# Altium footprint library Protel 99SE BANKS PCB.PCBLIB: 278 footprints (part 4 of 18)
Each footprint in its own frame and in the unit in brackets; x right, y up, seen from the top. Pads: shape width x height; smd on the part's side, far side on the other; paste and mask are expansions set on the pad; w line width, h text height; cw(c..) or ccw(c..) is an arc to the next point about the centre after c.
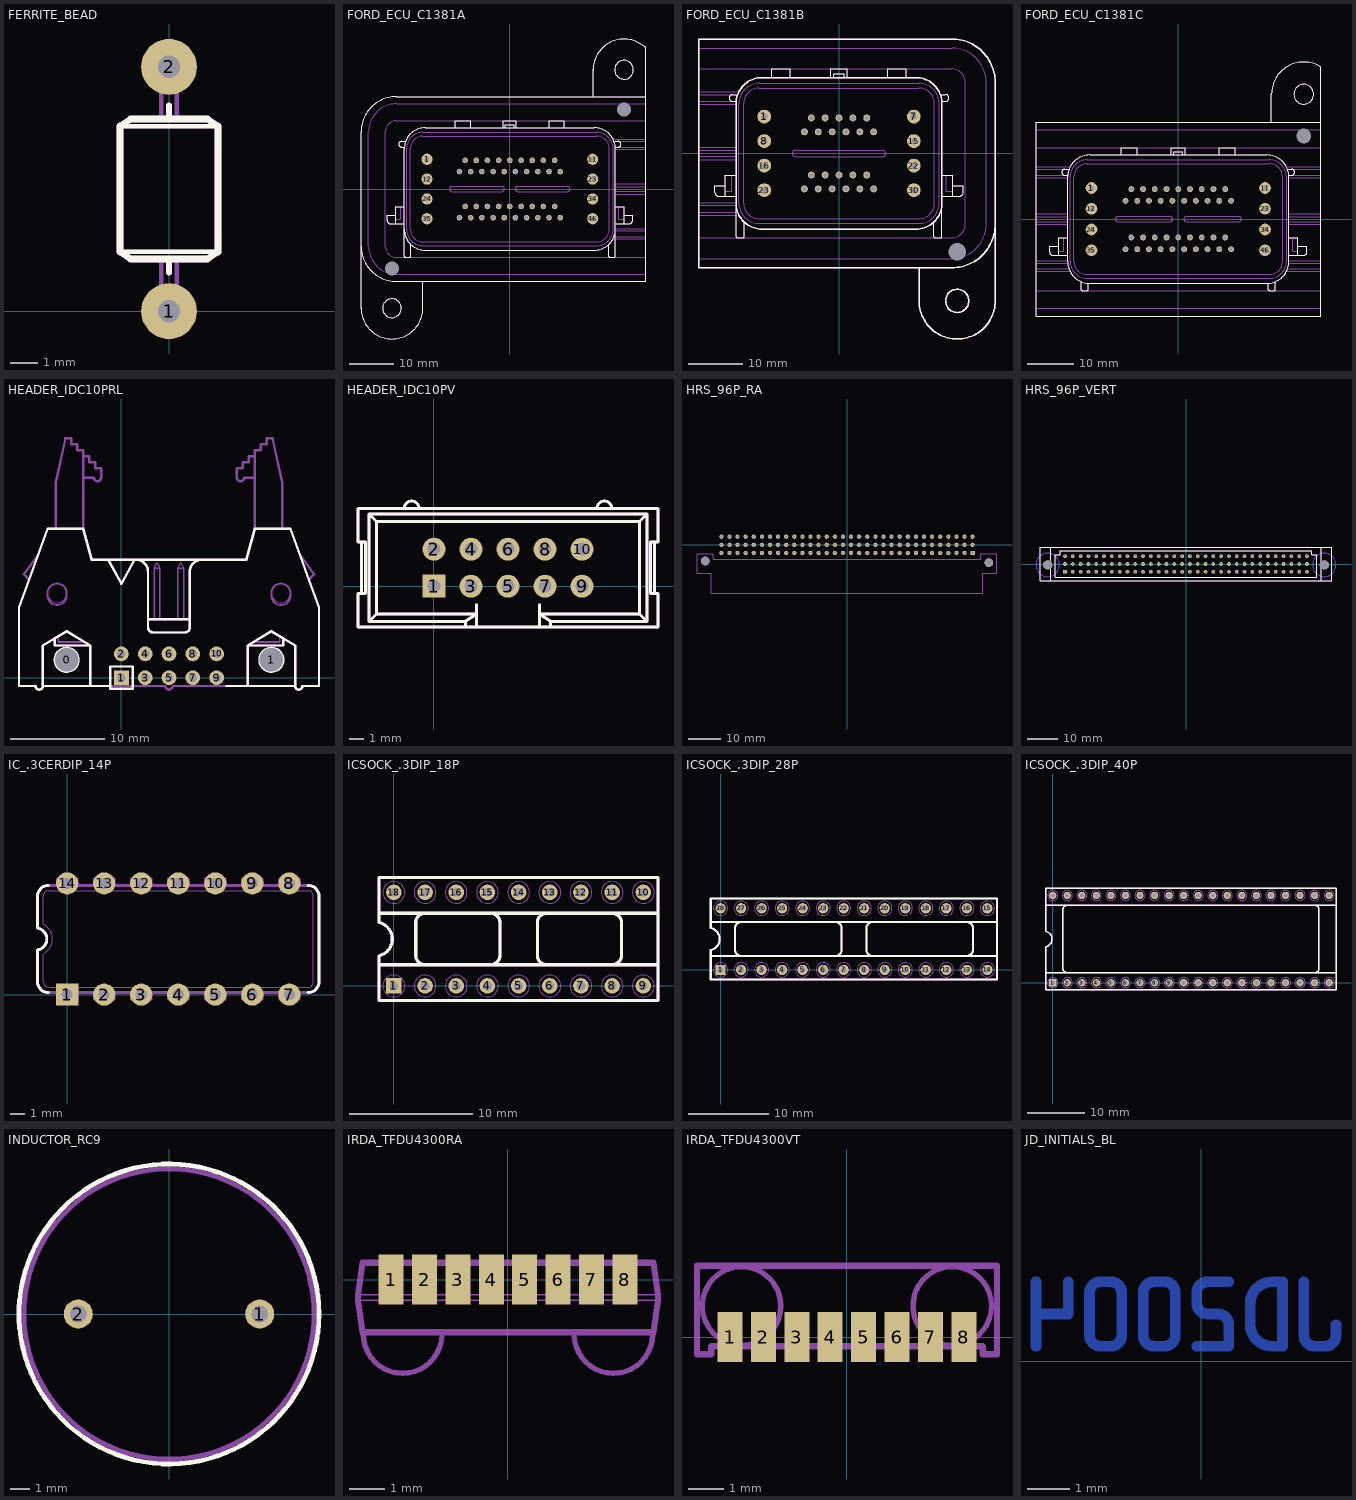
[diagram p3: the footprints below, top view; thin cyan lines are the x and y axes]

## FERRITE_BEAD [mil]
pads (2):
  round 80 hole 32: 1(0,0) 2(0,350)
TopOverlay:
  lines w6: -70,85 70,85 ; -70,265 70,265
  lines w8: 0,55 0,75 ; 0,275 0,295
  lines w10: -70,85 -55,75 55,75 70,85 70,265 55,275 -55,275 -70,265 -70,85
Mechanical3:
  lines w6: -70,85 70,85 ; -70,265 70,265 ; -11,75 -11,0 ccw(c0,0) 11,0 11,75 ; -11,275 -11,350 cw(c0,350) 11,350 11,275
  lines w10: -70,85 -55,75 55,75 70,85 70,265 55,275 -55,275 -70,265 -70,85

## FORD_ECU_C1381A [mil]
pads (48):
  round 100 hole 45: 1(-740,265.5) 11(740,265.5) 12(-740,88.5) 23(740,88.5) 24(-740,-88.5) 34(740,-88.5) 35(-740,-265.5) 46(740,-265.5)
  round 50 hole 35: 2(-400,256) 3(-300,256) 4(-200,256) 5(-100,256) 6(0,256) 7(100,256) 8(200,256) 9(300,256) 10(400,256) 13(-450,156) 14(-350,156) 15(-250,156) 16(-150,156) 17(-50,156) 18(50,156) 19(150,156) 20(250,156) 21(350,156) 22(450,156) 25(-400,-156) 26(-300,-156) 27(-200,-156) 28(-100,-156) 29(0,-156) 30(100,-156) 31(200,-156) 32(300,-156) 33(400,-156) 36(-450,-256) 37(-350,-256) 38(-250,-256) 39(-150,-256) 40(-50,-256) 41(50,-256) 42(150,-256) 43(250,-256) 44(350,-256) 45(450,-256)
  round 30 hole 125 unplated: ""(-1053,-709) ""(1020,709)
TopOverlay:
  circle w10: c1020,1065 r84
  circle w10: c-1053,-1065 r84
  lines w8: -1020,-310 -1020,-158 -943,-158 ; -1020,-233 -1097,-233 -1097,-280 ccw(c-1067,-280) -1067,-310 -943,-310 ; -943,-353.5 -943,-600 ccw(c-933,-600) -933,-610 -895,-610 ccw(c-895,-600) -885,-600 -885,-495.5 ; -943,375 -968,375 cw(c-968,400) -968,425 -932,425 ; -487,547 -487,610 -351,610 -351,547 ; -59,547 -59,610 59,610 59,547 ; -39,547 -39,576 39,576 39,547 ; 351,547 351,610 487,610 487,547 ; 885,-495.5 885,-600 ccw(c895,-600) 895,-610 933,-610 ccw(c933,-600) 943,-600 943,-353.5 ; 932,425 968,425 cw(c968,400) 968,375 943,375 ; 943,-310 1067,-310 ccw(c1067,-280) 1097,-280 1097,-233 1020,-233 ; 943,-158 1020,-158 1020,-310
  lines w10: -1328.05,-1065 ccw(c-1053,-1065) -777.95,-1065 ; -1328,-1070 -1328,-511 ; -778,-1070 -778,-826 ; 744.95,1065 cw(c1020,1065) 1212.78,1261.18 ; 745,826 745,1070 ; 1213,1261 1213,826 ; -1328,-511 ccw(c-1013,-511) -1013,-826 1213,-826 1213,826 ; -1328,-511 -1328,511 cw(c-1013,511) -1013,826 1213,826 ; -943,-360 ccw(c-756,-360) -756,-547 756,-547 ccw(c756,-360) 943,-360 943,360 ccw(c756,360) 756,547 -756,547 ccw(c-756,360) -943,360 -943,-360
Mechanical3:
  drawing of 664 lines, arcs and shapes, not listed

## FORD_ECU_C1381B [mil]
pads (31):
  round 100 hole 45: 1(-540,265.5) 7(540,265.5) 8(-540,88.5) 15(540,88.5) 16(-540,-88.5) 22(540,-88.5) 23(-540,-265.5) 30(540,-265.5)
  round 50 hole 35: 2(-200,256) 3(-100,256) 4(0,256) 5(100,256) 6(200,256) 9(-250,156) 10(-150,156) 11(-50,156) 12(50,156) 13(150,156) 14(250,156) 17(-200,-156) 18(-100,-156) 19(0,-156) 20(100,-156) 21(200,-156) 24(-250,-256) 25(-150,-256) 26(-50,-256) 27(50,-256) 28(150,-256) 29(250,-256)
  round 30 hole 125 unplated: ""(853,-709)
TopOverlay:
  circle w10: c853,-1065 r84
  lines w8: -820,-310 -820,-158 -743,-158 ; -820,-233 -897,-233 -897,-280 ccw(c-867,-280) -867,-310 -743,-310 ; -743,-353.5 -743,-600 ccw(c-733,-600) -733,-610 -695,-610 ccw(c-695,-600) -685,-600 -685,-495.5 ; -743,375 -768,375 cw(c-768,400) -768,425 -732,425 ; -487,547 -487,610 -351,610 -351,547 ; -59,547 -59,610 59,610 59,547 ; -39,547 -39,576 39,576 39,547 ; 351,547 351,610 487,610 487,547 ; 685,-495.5 685,-600 ccw(c695,-600) 695,-610 733,-610 ccw(c733,-600) 743,-600 743,-353.5 ; 732,425 768,425 cw(c768,400) 768,375 743,375 ; 743,-310 867,-310 ccw(c867,-280) 897,-280 897,-233 820,-233 ; 743,-158 820,-158 820,-310
  lines w10: 577.95,-1065 ccw(c853,-1065) 1128.05,-1065 ; 578,-1070 578,-826 ; 1128,-1070 1128,-511 ; 1128,-511 cw(c813,-511) 813,-826 -1013,-826 -1013,826 813,826 cw(c813,511) 1128,511 1128,-511 ; -743,-360 ccw(c-556,-360) -556,-547 556,-547 ccw(c556,-360) 743,-360 743,360 ccw(c556,360) 556,547 -556,547 ccw(c-556,360) -743,360 -743,-360
Mechanical3:
  drawing of 464 lines, arcs and shapes, not listed

## FORD_ECU_C1381C [mil]
pads (47):
  round 100 hole 45: 1(-740,265.5) 11(740,265.5) 12(-740,88.5) 23(740,88.5) 24(-740,-88.5) 34(740,-88.5) 35(-740,-265.5) 46(740,-265.5)
  round 50 hole 35: 2(-400,256) 3(-300,256) 4(-200,256) 5(-100,256) 6(0,256) 7(100,256) 8(200,256) 9(300,256) 10(400,256) 13(-450,156) 14(-350,156) 15(-250,156) 16(-150,156) 17(-50,156) 18(50,156) 19(150,156) 20(250,156) 21(350,156) 22(450,156) 25(-400,-156) 26(-300,-156) 27(-200,-156) 28(-100,-156) 29(0,-156) 30(100,-156) 31(200,-156) 32(300,-156) 33(400,-156) 36(-450,-256) 37(-350,-256) 38(-250,-256) 39(-150,-256) 40(-50,-256) 41(50,-256) 42(150,-256) 43(250,-256) 44(350,-256) 45(450,-256)
  round 30 hole 125 unplated: ""(1070,709)
TopOverlay:
  circle w10: c1070,1065 r84
  lines w8: -1020,-310 -1020,-158 -943,-158 ; -1020,-233 -1097,-233 -1097,-280 ccw(c-1067,-280) -1067,-310 -943,-310 ; -943,375 -968,375 cw(c-968,400) -968,425 -932,425 ; -827,-534 -827,-600 ccw(c-817,-600) -817,-610 -779,-610 ccw(c-779,-600) -769,-600 -769,-548 ; -487,547 -487,610 -351,610 -351,547 ; -59,547 -59,610 59,610 59,547 ; -39,547 -39,576 39,576 39,547 ; 351,547 351,610 487,610 487,547 ; 769,-548 769,-600 ccw(c779,-600) 779,-610 817,-610 ccw(c817,-600) 827,-600 827,-534 ; 932,425 968,425 cw(c968,400) 968,375 943,375 ; 943,-310 1067,-310 ccw(c1067,-280) 1097,-280 1097,-233 1020,-233 ; 943,-158 1020,-158 1020,-310
  lines w10: 794.95,1065 cw(c1070,1065) 1212.48,1300.26 ; 795,826 795,1070 ; 1213,1300 1213,826 ; 1213,826 1213,-826 -1213,-826 -1213,826 1213,826 ; -943,-360 ccw(c-756,-360) -756,-547 756,-547 ccw(c756,-360) 943,-360 943,360 ccw(c756,360) 756,547 -756,547 ccw(c-756,360) -943,360 -943,-360
Mechanical3:
  drawing of 664 lines, arcs and shapes, not listed

## HEADER_IDC10PRL [mil]
pads (12):
  round 60 hole 98 unplated: 0(-230,75) 1(630,75)
  rect 62x62 hole 35: 1(0,0)
  round 62 hole 35: 2(0,100) 3(100,0) 4(100,100) 5(200,0) 6(200,100) 7(300,0) 8(300,100) 9(400,0) 10(400,100)
TopOverlay:
  circle w10: c630,75 r50
  circle w10: c-230,75 r50
  lines w10: -280,165 -280,135 -130,135 ; -130,-35 -130,135 ; -55,495 0,395 55,495 ; -47,-35 -330,-35 ; 62,495 cw(c62,445) 112,445 112,210 ccw(c132,210) 132,190 267,190 ccw(c267,210) 287,210 287,445 cw(c337,445) 337,495 ; 112,245 287,245 ; 440,-35 730,-35 ; 530,-35 530,135 ; 680,164 680,135 530,135 ; -330,-35 cw(c-345,-35) -360,-35 -430,-35 -430,295 -310,625 -160,625 -125,495 525,495 560,625 710,625 830,295 830,-35 760,-35 cw(c745,-35) 730,-35 ; -330,-35 -330,135 -230,195 -130,135 ; 530,135 630,195 730,135 730,-35 ; -47,-47 47,-47 47,47 -47,47 -47,-47
KeepOutLayer:
  circle w10: c-230,75 r46.1
  circle w10: c630,75 r46.1
Mechanical3:
  circle w8: c-230,75 r50
  circle w4: c670,355 r40
  circle w8: c630,75 r50
  circle w4: c-270,355 r40
  lines w6: -55,495 0,395 55,495 ; 137,245 137,460 ; 162,245 162,460 ; 237,245 237,460 ; 262,245 262,460 ; 137,460 162,460 ; 137,460 147,480 152,480 162,460 ; 237,460 262,460 ; 237,460 247,480 252,480 262,460
  lines w8: -265,174 -265,150 -156,150 ; 112,245 287,245 ; 555,150 665,150 665,173 ; -310,345 ccw(c-270,345) -230,345 -230,355 ccw(c-270,355) -310,355 -310,345 ; 630,345 ccw(c670,345) 710,345 710,355 ccw(c670,355) 630,355 630,345
  lines w10: -390,415 -410,435 -349,519 ; -280,165 -280,135 -130,135 ; -275,625 -275,820 -235,1005 -210,1005 -210,980 -185,980 -185,955 -160,955 -160,625 ; -160,840 -115,840 ccw(c-100,840) -85,840 -85,880 -110,880 -110,905 -135,905 -135,930 -160,930 ; -130,-35 -130,135 ; 62,495 cw(c62,445) 112,445 112,210 ccw(c132,210) 132,190 267,190 ccw(c267,210) 287,210 287,445 cw(c337,445) 337,495 ; 530,-35 530,135 ; 560,840 515,840 cw(c500,840) 485,840 485,880 510,880 510,905 535,905 535,930 560,930 ; 675,625 675,820 635,1005 610,1005 610,980 585,980 585,955 560,955 560,625 ; 680,164 680,135 530,135 ; 748,520 810,435 790,415 ; -330,-35 cw(c-345,-35) -360,-35 -430,-35 -430,295 -310,625 -160,625 ; -330,-35 185,-35 ccw(c200,-35) 215,-35 730,-35 ; -330,-35 -330,135 -230,195 -130,135 ; -160,625 -125,495 525,495 560,625 ; 530,135 630,195 730,135 730,-35 ; 560,625 710,625 830,295 830,-35 760,-35 cw(c745,-35) 730,-35

## HEADER_IDC10PV [mil]
pads (10):
  rect 62x62 hole 35: 1(0,0)
  round 62 hole 35: 2(0,100) 3(100,0) 4(100,100) 5(200,0) 6(200,100) 7(300,0) 8(300,100) 9(400,0) 10(400,100)
TopOverlay:
  lines w8: -195,-20 -195,120 ; -80,210 cw(c-60,210) -40,210 ; 85,-110 85,-95 ; 115,-110 115,-50 ; 285,-110 285,-50 ; 315,-110 315,-95 ; 440,210 cw(c460,210) 480,210 ; 595,-20 595,120 ; -175,-95 85,-95 ; -175,-95 -175,195 ; -175,-95 -155,-75 ; -175,195 575,195 ; -175,195 -155,175 ; -155,-75 115,-75 85,-95 ; -155,-75 -155,175 ; -155,175 555,175 ; 315,-95 575,-95 ; 315,-95 285,-75 555,-75 ; 555,-75 555,175 ; 555,-75 575,-95 ; 555,175 575,195 ; 575,-95 575,195 ; -205,-110 605,-110 605,-20 585,-20 585,120 605,120 605,210 -205,210 -205,120 -185,120 -185,-20 -205,-20 -205,-110
Mechanical3:
  drawing of 156 lines, arcs and shapes, not listed

## HRS_96P_RA [mil]
pads (98):
  rect 52x52 hole 31: A1(1550,-100)
  round 52 hole 31: A2(1450,-100) A3(1350,-100) A4(1250,-100) A5(1150,-100) A6(1050,-100) A7(950,-100) A8(850,-100) A9(750,-100) A10(650,-100) A11(550,-100) A12(450,-100) A13(350,-100) A14(250,-100) A15(150,-100) A16(50,-100) A17(-50,-100) A18(-150,-100) A19(-250,-100) A20(-350,-100) A21(-450,-100) A22(-550,-100) A23(-650,-100) A24(-750,-100) A25(-850,-100) A26(-950,-100) A27(-1050,-100) A28(-1150,-100) A29(-1250,-100) A30(-1350,-100) A31(-1450,-100) A32(-1550,-100) B1(1550,0) B2(1450,0) B3(1350,0) B4(1250,0) B5(1150,0) B6(1050,0) B7(950,0) B8(850,0) B9(750,0) B10(650,0) B11(550,0) B12(450,0) B13(350,0) B14(250,0) B15(150,0) B16(50,0) B17(-50,0) B18(-150,0) B19(-250,0) B20(-350,0) B21(-450,0) B22(-550,0) B23(-650,0) B24(-750,0) B25(-850,0) B26(-950,0) B27(-1050,0) B28(-1150,0) B29(-1250,0) B30(-1350,0) B31(-1450,0) B32(-1550,0) C1(1550,100) C2(1450,100) C3(1350,100) C4(1250,100) C5(1150,100) C6(1050,100) C7(950,100) C8(850,100) C9(750,100) C10(650,100) C11(550,100) C12(450,100) C13(350,100) C14(250,100) C15(150,100) C16(50,100) C17(-50,100) C18(-150,100) C19(-250,100) C20(-350,100) C21(-450,100) C22(-550,100) C23(-650,100) C24(-750,100) C25(-850,100) C26(-950,100) C27(-1050,100) C28(-1150,100) C29(-1250,100) C30(-1350,100) C31(-1450,100) C32(-1550,100)
  round 107 hole 107 unplated: ""(-1750,-200) ""(1750,-219.69)
Mechanical3:
  lines w10: -1850.39,-351.78 -1673.23,-351.78 -1673.23,-599.81 0,-599.81 1673.23,-599.81 1673.23,-351.78 1850.39,-351.78 1850.39,-107.69 1649.61,-107.69 1649.61,-178.55 0,-178.55 -1649.61,-178.55 -1649.61,-107.69 -1850.39,-107.69 -1850.39,-351.78

## HRS_96P_VERT [mil]
pads (98):
  rect 48.3x48.3 hole 29: A1(-1550,-100)
  round 48.3 hole 29: A2(-1450,-100) A3(-1350,-100) A4(-1250,-100) A5(-1150,-100) A6(-1050,-100) A7(-950,-100) A8(-850,-100) A9(-750,-100) A10(-650,-100) A11(-550,-100) A12(-450,-100) A13(-350,-100) A14(-250,-100) A15(-150,-100) A16(-50,-100) A17(50,-100) A18(150,-100) A19(250,-100) A20(350,-100) A21(450,-100) A22(550,-100) A23(650,-100) A24(750,-100) A25(850,-100) A26(950,-100) A27(1050,-100) A28(1150,-100) A29(1250,-100) A30(1350,-100) A31(1450,-100) A32(1550,-100) B1(-1550,0) B2(-1450,0) B3(-1350,0) B4(-1250,0) B5(-1150,0) B6(-1050,0) B7(-950,0) B8(-850,0) B9(-750,0) B10(-650,0) B11(-550,0) B12(-450,0) B13(-350,0) B14(-250,0) B15(-150,0) B16(-50,0) B17(50,0) B18(150,0) B19(250,0) B20(350,0) B21(450,0) B22(550,0) B23(650,0) B24(750,0) B25(850,0) B26(950,0) B27(1050,0) B28(1150,0) B29(1250,0) B30(1350,0) B31(1450,0) B32(1550,0) C1(-1550,100) C2(-1450,100) C3(-1350,100) C4(-1250,100) C5(-1150,100) C6(-1050,100) C7(-950,100) C8(-850,100) C9(-750,100) C10(-650,100) C11(-550,100) C12(-450,100) C13(-350,100) C14(-250,100) C15(-150,100) C16(-50,100) C17(50,100) C18(150,100) C19(250,100) C20(350,100) C21(450,100) C22(550,100) C23(650,100) C24(750,100) C25(850,100) C26(950,100) C27(1050,100) C28(1150,100) C29(1250,100) C30(1350,100) C31(1450,100) C32(1550,100)
  round 117 hole 117 unplated: ""(-1771.65,-11.81) ""(1771.65,-11.81)
BottomLayer keep-out:
  circle w10: c1771.65,-11.81 r150
  circle w10: c-1771.65,-11.81 r150
TopOverlay:
  lines w10: -1732.28,-216.54 -1732.28,216.54 ; 1732.28,-216.54 1732.28,216.54 ; -1870.08,-216.54 1870.08,-216.54 1870.08,216.54 -1870.08,216.54 -1870.08,-216.54 ; -1678.15,-171.26 -1678.15,117.13 -1614.17,117.13 -1614.17,171.26 1614.17,171.26 1614.17,117.13 1678.15,117.13 1678.15,-171.26 -1678.15,-171.26
Mechanical3:
  lines w10: -1732.28,-216.54 -1732.28,216.54 ; 1732.28,-216.54 1732.28,216.54 ; -1870.08,-216.54 1870.08,-216.54 1870.08,216.54 0,216.54 -1870.08,216.54 -1870.08,-216.54 ; -1678.15,-171.26 0,-171.26 1678.15,-171.26 1678.15,117.13 1614.17,117.13 1614.17,171.26 0,171.26 -1614.17,171.26 -1614.17,117.13 -1678.15,117.13 -1678.15,-171.26

## IC_.3CERDIP_14P [mil]
pads (14):
  rect 60x60 hole 30: 1(0,0)
  round 60 hole 30: 2(100,0) 3(200,0) 4(300,0) 5(400,0) 6(500,0) 7(600,0) 8(600,300) 9(500,300) 10(400,300) 11(300,300) 12(200,300) 13(100,300) 14(0,300)
TopOverlay:
  lines w8: -80,120 -80,35 ccw(c-50,35) -50,5 ; -80,180 -80,265 cw(c-50,265) -50,295 ; -79.79,120.46 ccw(c-85,150) -79.79,179.54 ; 650,5 ccw(c650,35) 680,35 680,265 ccw(c650,265) 650,295
Mechanical3:
  lines w2: -65,109.5 -65,35 ccw(c-50,35) -50,20 650,20 ccw(c650,35) 665,35 665,265 ccw(c650,265) 650,280 -50,280 ccw(c-50,265) -65,265 -65,190.5 ; -64.92,109.73 ccw(c-85,150) -64.92,190.27
  lines w4: -28,5 -28,-14 28,-14 28,5 ; -28,295 -28,314 28,314 28,295 ; 72,5 72,-14 128,-14 128,5 ; 72,295 72,314 128,314 128,295 ; 172,5 172,-14 228,-14 228,5 ; 172,295 172,314 228,314 228,295 ; 272,5 272,-14 328,-14 328,5 ; 272,295 272,314 328,314 328,295 ; 372,5 372,-14 428,-14 428,5 ; 372,295 372,314 428,314 428,295 ; 472,5 472,-14 528,-14 528,5 ; 472,295 472,314 528,314 528,295 ; 572,5 572,-14 628,-14 628,5 ; 572,295 572,314 628,314 628,295
  lines w8: -80,120 -80,35 ccw(c-50,35) -50,5 650,5 ccw(c650,35) 680,35 680,265 ccw(c650,265) 650,295 -50,295 ccw(c-50,265) -80,265 -80,180 ; -79.79,120.46 ccw(c-85,150) -79.79,179.54

## ICSOCK_.3DIP_18P [mil]
pads (18):
  rect 50x50 hole 28: 1(0,0)
  round 50 hole 28: 2(100,0) 3(200,0) 4(300,0) 5(400,0) 6(500,0) 7(600,0) 8(700,0) 9(800,0) 10(800,300) 11(700,300) 12(600,300) 13(500,300) 14(400,300) 15(300,300) 16(200,300) 17(100,300) 18(0,300)
TopOverlay:
  lines w10: -48,68 847,68 ; -48,96 -48,-47 847,-47 847,348 -48,348 -48,204 ; -48,233 847,233 ; -47.63,96.41 ccw(c-60,150) -47.63,203.59 ; 100,68 cw(c100,98) 70,98 70,203 cw(c100,203) 100,233 ; 310,68 ccw(c310,98) 340,98 340,203 ccw(c310,203) 310,233 ; 490,68 cw(c490,98) 460,98 460,203 cw(c490,203) 490,233 ; 700,68 ccw(c700,98) 730,98 730,203 ccw(c700,203) 700,233
Mechanical3:
  circle w4: c300,300 r35
  circle w2: c200,300 r15
  circle w2: c300,300 r15
  circle w2: c300,300 r20
  circle w2: c200,300 r20
  circle w4: c200,300 r35
  circle w4: c0,300 r35
  circle w2: c0,300 r20
  circle w2: c100,300 r20
  circle w2: c100,300 r15
  circle w2: c0,300 r15
  circle w4: c100,300 r35
  circle w4: c400,300 r35
  circle w2: c500,300 r15
  circle w2: c400,300 r15
  circle w2: c400,300 r20
  circle w2: c500,300 r20
  circle w4: c500,300 r35
  circle w4: c700,300 r35
  circle w2: c700,300 r20
  circle w2: c600,300 r20
  circle w2: c600,300 r15
  circle w2: c700,300 r15
  circle w4: c600,300 r35
  circle w4: c800,300 r35
  circle w2: c800,0 r15
  circle w2: c800,300 r15
  circle w2: c800,300 r20
  circle w2: c800,0 r20
  circle w4: c800,0 r35
  circle w4: c600,0 r35
  circle w2: c600,0 r20
  circle w2: c700,0 r20
  circle w2: c700,0 r15
  circle w2: c600,0 r15
  circle w4: c700,0 r35
  circle w4: c500,0 r35
  circle w2: c400,0 r15
  circle w2: c500,0 r15
  circle w2: c500,0 r20
  circle w2: c400,0 r20
  circle w4: c400,0 r35
  circle w4: c200,0 r35
  circle w2: c200,0 r20
  circle w2: c300,0 r20
  circle w2: c300,0 r15
  circle w2: c200,0 r15
  circle w4: c300,0 r35
  circle w4: c0,0 r35
  circle w2: c0,0 r20
  circle w2: c100,0 r20
  circle w2: c100,0 r15
  circle w2: c0,0 r15
  circle w4: c100,0 r35
  lines w10: -48,68 847,68 ; -48,96 -48,-47 847,-47 847,348 -48,348 -48,204 ; -48,233 847,233 ; -47.63,96.41 ccw(c-60,150) -47.63,203.59 ; 100,68 cw(c100,98) 70,98 70,203 cw(c100,203) 100,233 ; 310,68 ccw(c310,98) 340,98 340,203 ccw(c310,203) 310,233 ; 490,68 cw(c490,98) 460,98 460,203 cw(c490,203) 490,233 ; 700,68 ccw(c700,98) 730,98 730,203 ccw(c700,203) 700,233

## ICSOCK_.3DIP_28P [mil]
pads (28):
  rect 50x50 hole 28: 1(0,0)
  round 50 hole 28: 2(100,0) 3(200,0) 4(300,0) 5(400,0) 6(500,0) 7(600,0) 8(700,0) 9(800,0) 10(900,0) 11(1000,0) 12(1100,0) 13(1200,0) 14(1300,0) 15(1300,300) 16(1200,300) 17(1100,300) 18(1000,300) 19(900,300) 20(800,300) 21(700,300) 22(600,300) 23(500,300) 24(400,300) 25(300,300) 26(200,300) 27(100,300) 28(0,300)
TopOverlay:
  lines w10: -48,68 1347,68 ; -48,96 -48,-47 1347,-47 1347,348 -48,348 -48,204 ; -48,233 1347,233 ; -47.63,96.41 ccw(c-60,150) -47.63,203.59 ; 100,68 cw(c100,98) 70,98 70,203 cw(c100,203) 100,233 ; 560,68 ccw(c560,98) 590,98 590,203 ccw(c560,203) 560,233 ; 740,68 cw(c740,98) 710,98 710,203 cw(c740,203) 740,233 ; 1200,68 ccw(c1200,98) 1230,98 1230,203 ccw(c1200,203) 1200,233
Mechanical3:
  circle w4: c1300,300 r35
  circle w2: c1200,300 r15
  circle w2: c1300,300 r15
  circle w2: c1300,300 r20
  circle w2: c1200,300 r20
  circle w4: c1200,300 r35
  circle w4: c1000,300 r35
  circle w2: c1000,300 r20
  circle w2: c1100,300 r20
  circle w2: c1100,300 r15
  circle w2: c1000,300 r15
  circle w4: c1100,300 r35
  circle w4: c900,300 r35
  circle w2: c800,300 r15
  circle w2: c900,300 r15
  circle w2: c900,300 r20
  circle w2: c800,300 r20
  circle w4: c800,300 r35
  circle w4: c600,300 r35
  circle w2: c600,300 r20
  circle w2: c700,300 r20
  circle w2: c700,300 r15
  circle w2: c600,300 r15
  circle w4: c700,300 r35
  circle w4: c500,300 r35
  circle w2: c400,300 r15
  circle w2: c500,300 r15
  circle w2: c500,300 r20
  circle w2: c400,300 r20
  circle w4: c400,300 r35
  circle w4: c200,300 r35
  circle w2: c200,300 r20
  circle w2: c300,300 r20
  circle w2: c300,300 r15
  circle w2: c200,300 r15
  circle w4: c300,300 r35
  circle w4: c0,300 r35
  circle w2: c0,300 r20
  circle w2: c100,300 r20
  circle w2: c100,300 r15
  circle w2: c0,300 r15
  circle w4: c100,300 r35
  circle w4: c1300,0 r35
  circle w2: c1200,0 r15
  circle w2: c1300,0 r15
  circle w2: c1300,0 r20
  circle w2: c1200,0 r20
  circle w4: c1200,0 r35
  circle w4: c1000,0 r35
  circle w2: c1000,0 r20
  circle w2: c1100,0 r20
  circle w2: c1100,0 r15
  circle w2: c1000,0 r15
  circle w4: c1100,0 r35
  circle w4: c900,0 r35
  circle w2: c800,0 r15
  circle w2: c900,0 r15
  circle w2: c900,0 r20
  circle w2: c800,0 r20
  circle w4: c800,0 r35
  circle w4: c600,0 r35
  circle w2: c600,0 r20
  circle w2: c700,0 r20
  circle w2: c700,0 r15
  circle w2: c600,0 r15
  circle w4: c700,0 r35
  circle w4: c500,0 r35
  circle w2: c400,0 r15
  circle w2: c500,0 r15
  circle w2: c500,0 r20
  circle w2: c400,0 r20
  circle w4: c400,0 r35
  circle w4: c200,0 r35
  circle w2: c200,0 r20
  circle w2: c300,0 r20
  circle w2: c300,0 r15
  circle w2: c200,0 r15
  circle w4: c300,0 r35
  circle w4: c0,0 r35
  circle w2: c0,0 r20
  circle w2: c100,0 r20
  circle w2: c100,0 r15
  circle w2: c0,0 r15
  circle w4: c100,0 r35
  lines w10: -48,68 1347,68 ; -48,96 -48,-47 1347,-47 1347,348 -48,348 -48,204 ; -48,233 1347,233 ; -47.63,96.41 ccw(c-60,150) -47.63,203.59 ; 100,68 cw(c100,98) 70,98 70,203 cw(c100,203) 100,233 ; 560,68 ccw(c560,98) 590,98 590,203 ccw(c560,203) 560,233 ; 740,68 cw(c740,98) 710,98 710,203 cw(c740,203) 740,233 ; 1200,68 ccw(c1200,98) 1230,98 1230,203 ccw(c1200,203) 1200,233

## ICSOCK_.3DIP_40P [mil]
pads (40):
  rect 50x50 hole 28: 1(0,0)
  round 50 hole 28: 2(100,0) 3(200,0) 4(300,0) 5(400,0) 6(500,0) 7(600,0) 8(700,0) 9(800,0) 10(900,0) 11(1000,0) 12(1100,0) 13(1200,0) 14(1300,0) 15(1400,0) 16(1500,0) 17(1600,0) 18(1700,0) 19(1800,0) 20(1900,0) 21(1900,600) 22(1800,600) 23(1700,600) 24(1600,600) 25(1500,600) 26(1400,600) 27(1300,600) 28(1200,600) 29(1100,600) 30(1000,600) 31(900,600) 32(800,600) 33(700,600) 34(600,600) 35(500,600) 36(400,600) 37(300,600) 38(200,600) 39(100,600) 40(0,600)
TopOverlay:
  lines w10: -48,68 1947,68 ; -48,246 -48,-47 1947,-47 1947,648 -48,648 -48,354 ; -48,533 1947,533 ; -47.63,246.41 ccw(c-60,300) -47.63,353.59 ; 100,68 cw(c100,98) 70,98 70,503 cw(c100,503) 100,533 ; 1800,68 ccw(c1800,98) 1830,98 1830,503 ccw(c1800,503) 1800,533
Mechanical3:
  circle w4: c0,600 r35
  circle w2: c0,600 r15
  circle w2: c0,600 r20
  circle w2: c100,600 r20
  circle w2: c100,600 r15
  circle w4: c100,600 r35
  circle w4: c200,600 r35
  circle w2: c200,600 r15
  circle w2: c200,600 r20
  circle w2: c300,600 r20
  circle w2: c300,600 r15
  circle w4: c300,600 r35
  circle w4: c400,600 r35
  circle w2: c400,600 r15
  circle w2: c400,600 r20
  circle w4: c500,600 r35
  circle w2: c500,600 r15
  circle w2: c500,600 r20
  circle w2: c600,600 r20
  circle w2: c600,600 r15
  circle w4: c600,600 r35
  circle w4: c700,600 r35
  circle w2: c700,600 r15
  circle w2: c700,600 r20
  circle w2: c800,600 r20
  circle w2: c800,600 r15
  circle w4: c800,600 r35
  circle w4: c900,600 r35
  circle w2: c900,600 r15
  circle w2: c900,600 r20
  circle w2: c1400,600 r20
  circle w2: c1400,600 r15
  circle w4: c1400,600 r35
  circle w4: c1300,600 r35
  circle w2: c1300,600 r15
  circle w2: c1300,600 r20
  circle w2: c1200,600 r20
  circle w2: c1200,600 r15
  circle w4: c1200,600 r35
  circle w4: c1100,600 r35
  circle w2: c1100,600 r15
  circle w2: c1100,600 r20
  circle w2: c1000,600 r20
  circle w2: c1000,600 r15
  circle w4: c1000,600 r35
  circle w4: c1500,600 r35
  circle w2: c1500,600 r15
  circle w2: c1500,600 r20
  circle w2: c1600,600 r20
  circle w2: c1600,600 r15
  circle w4: c1600,600 r35
  circle w4: c1700,600 r35
  circle w2: c1700,600 r15
  circle w2: c1700,600 r20
  circle w2: c1800,600 r20
  circle w2: c1800,600 r15
  circle w4: c1800,600 r35
  circle w4: c1900,600 r35
  circle w2: c1900,600 r15
  circle w2: c1900,600 r20
  circle w2: c1900,0 r20
  circle w2: c1900,0 r15
  circle w4: c1900,0 r35
  circle w4: c1800,0 r35
  circle w2: c1800,0 r15
  circle w2: c1800,0 r20
  circle w2: c1700,0 r20
  circle w2: c1700,0 r15
  circle w4: c1700,0 r35
  circle w4: c1600,0 r35
  circle w2: c1600,0 r15
  circle w2: c1600,0 r20
  circle w2: c1500,0 r20
  circle w2: c1500,0 r15
  circle w4: c1500,0 r35
  circle w4: c1000,0 r35
  circle w2: c1000,0 r15
  circle w2: c1000,0 r20
  circle w2: c1100,0 r20
  circle w2: c1100,0 r15
  circle w4: c1100,0 r35
  circle w4: c1200,0 r35
  circle w2: c1200,0 r15
  circle w2: c1200,0 r20
  circle w2: c1300,0 r20
  circle w2: c1300,0 r15
  circle w4: c1300,0 r35
  circle w4: c1400,0 r35
  circle w2: c1400,0 r15
  circle w2: c1400,0 r20
  circle w2: c900,0 r20
  circle w2: c900,0 r15
  circle w4: c900,0 r35
  circle w4: c800,0 r35
  circle w2: c800,0 r15
  circle w2: c800,0 r20
  circle w2: c700,0 r20
  circle w2: c700,0 r15
  circle w4: c700,0 r35
  circle w4: c600,0 r35
  circle w2: c600,0 r15
  circle w2: c600,0 r20
  circle w2: c500,0 r20
  circle w2: c500,0 r15
  circle w4: c500,0 r35
  circle w2: c400,0 r20
  circle w2: c400,0 r15
  circle w4: c400,0 r35
  circle w4: c300,0 r35
  circle w2: c300,0 r15
  circle w2: c300,0 r20
  circle w2: c200,0 r20
  circle w2: c200,0 r15
  circle w4: c200,0 r35
  circle w4: c100,0 r35
  circle w2: c100,0 r15
  circle w2: c100,0 r20
  circle w2: c0,0 r20
  circle w2: c0,0 r15
  circle w4: c0,0 r35
  lines w10: -48,68 1947,68 ; -48,246 -48,-47 1947,-47 1947,648 -48,648 -48,354 ; -48,533 1947,533 ; -47.63,246.41 ccw(c-60,300) -47.63,353.59 ; 100,68 cw(c100,98) 70,98 70,503 cw(c100,503) 100,533 ; 1800,68 ccw(c1800,98) 1830,98 1830,503 ccw(c1800,503) 1800,533

## INDUCTOR_RC9 [mil] "TRIAD MAGNETICS 200uH 10% THROUGH HOLE"
height 930
pads (2):
  round 60 hole 35: 1(187.5,0) 2(-187.5,0)
TopOverlay:
  circle w10: c0,0 r310
Mechanical3:
  circle w10: c0,0 r300

## IRDA_TFDU4300RA [mil]
pads (8):
  rect 28x56 smd: 1(-130.91,0) 2(-93.5,0) 3(-56.1,0) 4(-18.7,0) 5(18.7,0) 6(56.1,0) 7(93.5,0) 8(130.91,0)
Mechanical3:
  lines w2: -168,-23 168,-23 ; -168,-17 168,-17
  lines w6: -162,-59 -162,-61 ccw(c-118,-61) -74,-61 -74,-59 ; 74,-59 74,-61 ccw(c118,-61) 162,-61 162,-59
  lines w7: -168,-23 -168,-17 -163,19 163,19 168,-17 168,-23 163,-59 -163,-59 -168,-23

## IRDA_TFDU4300VT [mil]
pads (8):
  rect 28x56 smd: 1(-130.91,0) 2(-93.5,0) 3(-56.1,0) 4(-18.7,0) 5(18.7,0) 6(56.1,0) 7(93.5,0) 8(130.91,0)
Mechanical3:
  circle w6: c-118,35 r44
  circle w6: c118,35 r44
  lines w4: -140.41,-10 -140.41,-19 -121.41,-19 -121.41,-10 ; -103,-10 -103,-19 -84,-19 -84,-10 ; -65.6,-10 -65.6,-19 -46.6,-19 -46.6,-10 ; -28.2,-10 -28.2,-19 -9.2,-19 -9.2,-10 ; 9.2,-10 9.2,-19 28.2,-19 28.2,-10 ; 46.6,-10 46.6,-19 65.6,-19 65.6,-10 ; 84,-10 84,-19 103,-19 103,-10 ; 121.41,-10 121.41,-19 140.41,-19 140.41,-10
  lines w7: -167.91,-19 -152,-19 -152,-10 152,-10 152,-19 168.09,-19 168.09,80 -167.91,80 -167.91,-19

## JD_INITIALS_BL [mil]
BottomLayer:
  circle w10: c25.55,13.9 r0
  circle w10: c-4.45,53.9 r0
  circle w10: c-154.45,13.9 r0
  circle w10: c-154.45,43.9 r0
  circle w10: c-124.45,43.9 r0
  circle w10: c75.55,13.9 r0
  lines w10: -154.45,13.9 -154.45,43.9 ; -154.45,73.9 -154.45,43.9 ; -124.45,73.9 -124.45,43.9 -154.45,43.9 ; -4.45,13.9 25.55,13.9 25.55,33.9 ccw(c15.55,33.9) 15.55,43.9 5.55,43.9 cw(c5.55,53.9) -4.45,53.9 -4.45,63.9 cw(c5.55,63.9) 5.55,73.9 25.55,73.9 ; 95.55,73.9 95.55,23.9 ccw(c105.55,23.9) 105.55,13.9 115.55,13.9 ccw(c115.55,23.9) 125.55,23.9 125.55,33.9 ; -104.45,23.9 ccw(c-94.45,23.9) -94.45,13.9 -84.45,13.9 ccw(c-84.45,23.9) -74.45,23.9 -74.45,63.9 ccw(c-84.45,63.9) -84.45,73.9 -94.45,73.9 ccw(c-94.45,63.9) -104.45,63.9 -104.45,23.9 ; -54.45,23.9 ccw(c-44.45,23.9) -44.45,13.9 -34.45,13.9 ccw(c-34.45,23.9) -24.45,23.9 -24.45,63.9 ccw(c-34.45,63.9) -34.45,73.9 -44.45,73.9 ccw(c-44.45,63.9) -54.45,63.9 -54.45,23.9 ; 45.55,33.9 ccw(c65.55,33.9) 65.55,13.9 75.55,13.9 75.55,73.9 65.55,73.9 ccw(c65.55,53.9) 45.55,53.9 45.55,33.9